# Altium integrated library LTRBGFSF.IntLib: 1 symbol
Pins are listed as number, name and electrical type; pins without a type are passive.

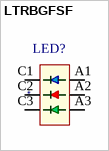
[diagram p0: symbol LTRBGFSF]

## LTRBGFSF
designator LED?
ID: LTRBGFSF-ABCB-QKYO-Z; PDF: http://www.osram-os.com/Graphics/XPic2/00062752_0.pdf; PRICE: 0.79000; BUY_LINK: http://www.digikey.com/product-detail/en/LTRBGFSF-ABCB-QKYO-Z/475-2899-1-ND/2415091
footprint LTRBGFSF
pins: A1, A2, A3, C1, C2, C3